# EAGLE library part LSM9DS1TR_9-AXIS_IMU (library custom_Ben)
LSM9DS1TR 9-Axis IMU
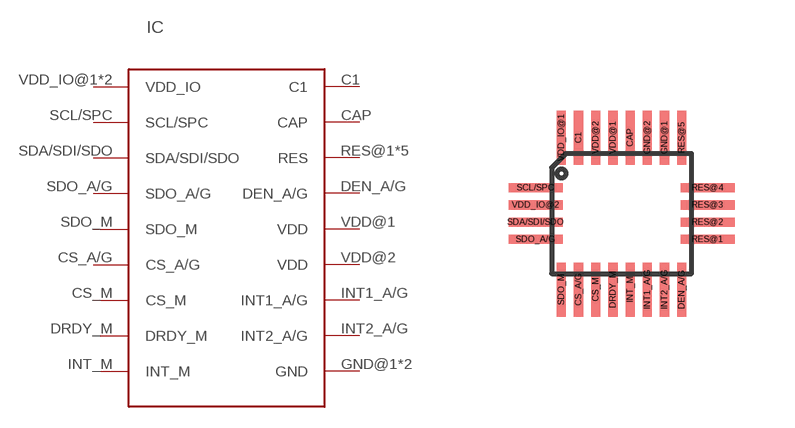
[diagram p0: symbol with the pads of IMU_LSM9DS1TR; footprint IMU_LSM9DS1TR]

Designator prefix IC

## LSM9DS1TR_9-AXIS_IMU (CREATOR: Ben Phan; DIST: Digikey; DISTPN: 497-14946-1-ND; MFR: STMicroelectronics; MPN: LSM9DS1TR)  [IMU_LSM9DS1TR]
C1  C1
CAP  CAP
CS_A/G  CS_A/G
CS_M  CS_M
DEN_A/G  DEN_A/G
DRDY_M  DRDY_M
GND@1  GND
GND@2  GND
INT1_A/G  INT1_A/G
INT2_A/G  INT2_A/G
INT_M  INT_M
RES@1  RES
RES@2  RES
RES@3  RES
RES@4  RES
RES@5  RES
SCL/SPC  SCL/SPC
SDA/SDI/SDO  SDA/SDI/SDO
SDO_A/G  SDO_A/G
SDO_M  SDO_M
VDD@1  VDD
VDD@2  VDD
VDD_IO@1  VDD_IO
VDD_IO@2  VDD_IO

## Footprint IMU_LSM9DS1TR (pad centres in mm)
LSM9DS1TR 9-Axis IMU
smd 0.23 x 1.35: C1 -1.075,1.9; CAP 0.215,1.9; CS_A/G -1.075,-1.9; CS_M -0.645,-1.9; DEN_A/G 1.505,-1.9; DRDY_M -0.215,-1.9; GND@1 1.075,1.9; GND@2 0.645,1.9; INT1_A/G 0.645,-1.9; INT2_A/G 1.075,-1.9; INT_M 0.215,-1.9; RES@5 1.505,1.9; SDO_M -1.505,-1.9; VDD@1 -0.215,1.9; VDD@2 -0.645,1.9; VDD_IO@1 -1.505,1.9
smd 1.35 x 0.23: RES@1 2.15,-0.645; RES@2 2.15,-0.215; RES@3 2.15,0.215; RES@4 2.15,0.645; SCL/SPC -2.15,0.645; SDA/SDI/SDO -2.15,-0.215; SDO_A/G -2.15,-0.645; VDD_IO@2 -2.15,0.215